# Altium schematic symbol library LMR54406DBVR.SchLib: 1 symbol
Pins are listed as number, name and electrical type; pins without a type are passive.

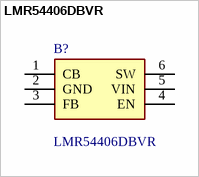
[diagram p0: symbol LMR54406DBVR]

## LMR54406DBVR
designator B?
Switching Voltage Regulators SIMPLE SWITCHER power converter 4.5-V to 36-V, 0.6-A, synchronous buck with 80-uA IQ; Manufacturer_Name: Texas Instruments; Geometry.Height: 1.45mm; Mouser Part Number: 595-LMR54406DBVR; Mouser Price/Stock: https://www.mouser.co.uk/ProductDetail/Texas-Instruments/LMR54406DBVR?qs=rSMjJ%252B1ewcQLNU8KVBwgHQ%3D%3D; Manufacturer_Part_Number: LMR54406DBVR; Datasheet Link: https://www.ti.com/lit/ds/symlink/lmr54406.pdf?ts=1659688249350&ref_url=https%253A%252F%252Fwww.ti.com%252Fproduct%252FLMR54406%252Fpart-details%252FLMR54406DBVR
footprint SOT95P280X145-6N
pins: 1 CB, 2 GND, 3 FB, 4 EN, 5 VIN, 6 SW